# EAGLE library part XR22404CG28TR-F (library SamacSys_Parts)
IC USB 2.0 4-PORT HUB 28SSOP Source: Datasheet <https://www.maxlinear.com/document?id=22105>
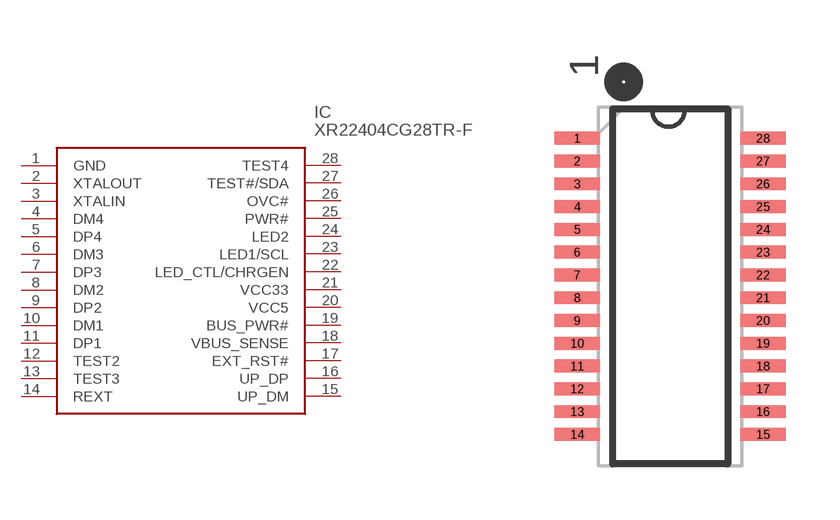
[diagram p21: symbol with the pads of SOP64P600X173-28N; footprint SOP64P600X173-28N]

Designator prefix IC

## XR22404CG28TR-F (DESCRIPTION: IC USB 2.0 4-PORT HUB 28SSOP; HEIGHT: 1.73mm; MANUFACTURER_NAME: MaxLinear, Inc.; MANUFACTURER_PART_NUMBER: XR22404CG28TR-F; MOUSER_PART_NUMBER: 701-XR22404CG28TR-F; MOUSER_PRICE-STOCK: https://www.mouser.co.uk/ProductDetail/MaxLinear/XR22404CG28TR-F?qs=pMEWzlIAYnay3yoEWcwQ0g%3D%3D)  [SOP64P600X173-28N]
1  GND  pwr
2  XTALOUT
3  XTALIN
4  DM4
5  DP4
6  DM3
7  DP3
8  DM2
9  DP2
10  DM1
11  DP1
12  TEST2
13  TEST3
14  REXT
15  UP_DM
16  UP_DP
17  EXT_RST#
18  VBUS_SENSE
19  BUS_PWR#
20  VCC5
21  VCC33
22  LED_CTL/CHRGEN
23  LED1/SCL
24  LED2
25  PWR#
26  OVC#
27  TEST#/SDA
28  TEST4

## Footprint SOP64P600X173-28N (pad centres in mm)
SSOP-28
smd 1.27 x 0.36: 1 -2.59,4.128; 2 -2.59,3.493; 3 -2.59,2.858; 4 -2.59,2.223; 5 -2.59,1.588; 6 -2.59,0.953; 7 -2.59,0.318; 8 -2.59,-0.317; 9 -2.59,-0.952; 10 -2.59,-1.587; 11 -2.59,-2.222; 12 -2.59,-2.857; 13 -2.59,-3.492; 14 -2.59,-4.127; 15 2.59,-4.127; 16 2.59,-3.492; 17 2.59,-2.857; 18 2.59,-2.222; 19 2.59,-1.587; 20 2.59,-0.952; 21 2.59,-0.317; 22 2.59,0.318; 23 2.59,0.953; 24 2.59,1.588; 25 2.59,2.223; 26 2.59,2.858; 27 2.59,3.493; 28 2.59,4.128